# EAGLE library part JTAG (library usb-fpga-1)
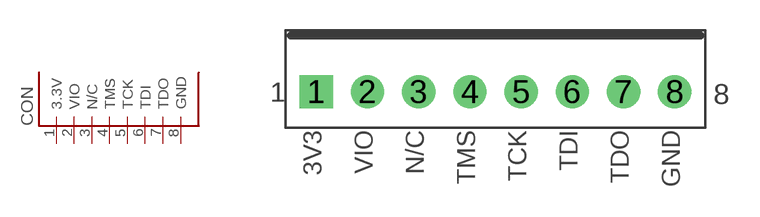
[diagram p17: symbol with the pads of JTAG; footprint JTAG]

Designator prefix CON

## JTAG  [JTAG]
1  3.3V  pas
2  VIO  pas
3  N/C  pas
4  TMS  pas
5  TCK  pas
6  TDI  pas
7  TDO  pas
8  GND  pas

## Footprint JTAG (pad centres in mm)
drill 1.1 square: 1 -8.89,0
drill 1.1 round: 2 -6.35,0; 3 -3.81,0; 4 -1.27,0; 5 1.27,0; 6 3.81,0; 7 6.35,0; 8 8.89,0